# Altium footprint library CON_SAMTEC_6P_2MM_RA.PcbLib: 1 footprints
Each footprint in its own frame and in the unit in brackets; x right, y up, seen from the top. Pads: shape width x height; smd on the part's side, far side on the other; paste and mask are expansions set on the pad; w line width, h text height; cw(c..) or ccw(c..) is an arc to the next point about the centre after c.
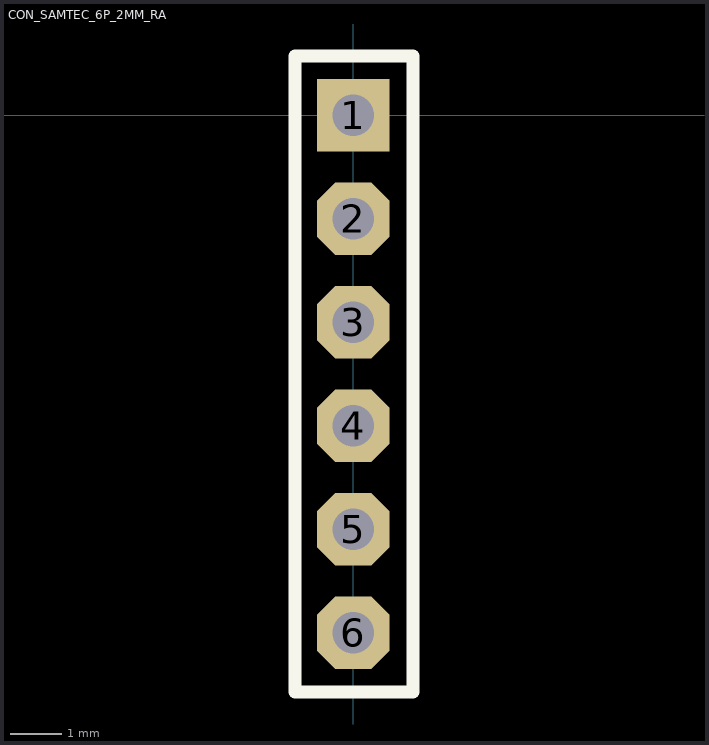
[diagram p0: the footprint, top view; thin cyan lines are the x and y axes]

## CON_SAMTEC_6P_2MM_RA [mm] "6 PIN HEADER 2MM THROUGH HOLE RA"
height 0.102
pads (6):
  rect 1.4x1.4 hole 0.8: 1(0,0)
  oct 1.4x1.4 hole 0.8: 2(0,-2) 3(0,-4) 4(0,-6) 5(0,-8) 6(0,-10)
Top Overlay:
  lines w0.25: -1.125,-11.15 1.15,-11.15 1.15,-7.1 1.15,1.15 -1.125,1.15 -1.125,-11.15
3D body "TMM-106-01-G-S-RA.stp": height 1.98, standoff -3.05, extent -5.969,-11 0.254,1